# Altium schematic symbol library 零散元件库.SCHLIB: 11 symbols
Pins are listed as number, name and electrical type; pins without a type are passive.

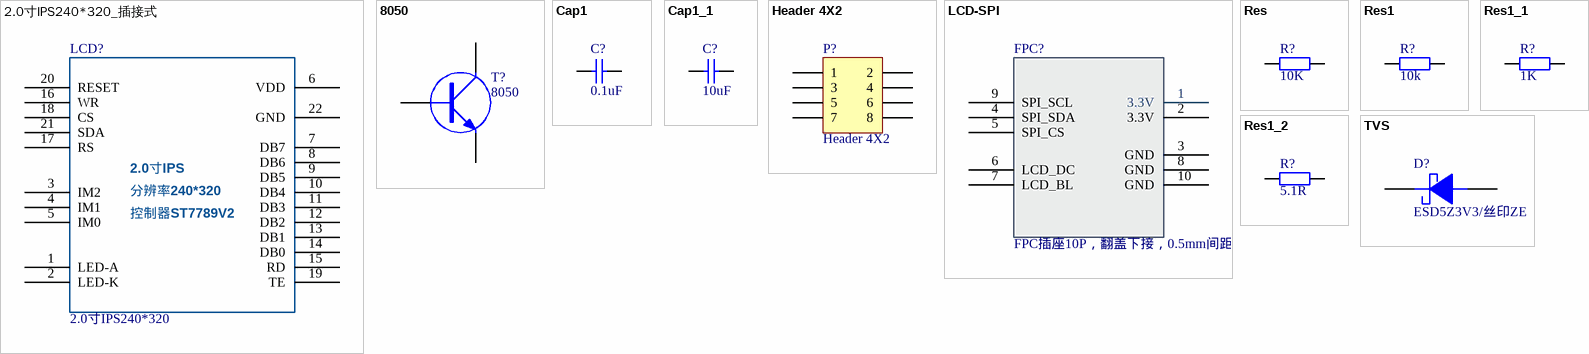
[diagram p0: symbols 2.0寸IPS240*320_插接式 to TVS]

## 2.0寸IPS240*320_插接式
designator LCD?, comment 2.0寸IPS240*320
footprint 2.0寸IPS240*320 - 插接式
pins: 1 LED-A, 2 LED-K, 3 IM2, 4 IM1, 5 IM0, 6 VDD, 7 DB7, 8 DB6, 9 DB5, 10 DB4, 11 DB3, 12 DB2, 13 DB1, 14 DB0, 15 RD, 16 WR, 17 RS, 18 CS, 19 TE, 20 RESET, 21 SDA, 22 GND
text: 2.0寸IPS; 分辨率240*320; 控制器ST7789V2

## 8050
designator T?
footprint TO92B
footprint SO-G3/C2.25 (SOT-23; 3 Leads; Body 3.0 x 2.5 mm, inc. leads (LxW max))
pins: 1 E, 2 B, 3 C

## Cap1
designator C?, comment 0.1uF
value: 0.1uF
footprint RAD0.2
footprint RAD0.3
footprint RAD0.4
footprint RAD0.5
footprint RAD0.6
footprint 0603-cap (Chip Capacitor, 2-Leads, Body 1.60x0.80mm, IPC Medium Density)
footprint 0805-CAP (Chip Capacitor, 2-Leads, Body 2.80x1.40mm, IPC Medium Density)
footprint 0402-CAP (Chip Capacitor, 2-Leads, Body 1.00x0.50mm, IPC Medium Density)
footprint 1206-CAP (Chip Capacitor, 2-Leads, Body 3.20x1.60mm, IPC Medium Density)
footprint 1210-CAP (Chip Capacitor, 2-Leads, Body 3.20x2.50mm, IPC Medium Density)
pins: 1, 2

## Cap1_1
designator C?, comment 10uF
value: 10uF
footprint RAD0.2
footprint RAD0.3
footprint RAD0.4
footprint RAD0.5
footprint RAD0.6
footprint 0603-cap (Chip Capacitor, 2-Leads, Body 1.60x0.80mm, IPC Medium Density)
footprint 0805-CAP (Chip Capacitor, 2-Leads, Body 2.80x1.40mm, IPC Medium Density)
footprint 0402-CAP (Chip Capacitor, 2-Leads, Body 1.00x0.50mm, IPC Medium Density)
footprint 1206-CAP (Chip Capacitor, 2-Leads, Body 3.20x1.60mm, IPC Medium Density)
footprint 1210-CAP (Chip Capacitor, 2-Leads, Body 3.20x2.50mm, IPC Medium Density)
pins: 1, 2

## Header 4X2
designator P?
Header, 4-Pin, Dual row; LatestRevisionDate: 17-Jul-2002; LatestRevisionNote: Re-released for DXP Platform.; Publisher: Altium Limited
footprint HDR2X4 (Connector; Header; 4x2 Position)
signal-integrity model Connector
pins: 1, 2, 3, 4, 5, 6, 7, 8

## LCD-SPI
designator FPC?, comment FPC插座10P，翻盖下接，0.5mm间距
footprint FPC10P-0.5MM
pins: 1 3.3V, 2 3.3V, 3 GND, 4 SPI_SDA, 5 SPI_CS, 6 LCD_DC, 7 LCD_BL, 8 GND, 9 SPI_SCL, 10 GND

## Res
designator R?, comment 10K
value: 10K
footprint AXIAL0.4
footprint AXIAL0.8
footprint 2512
footprint AXIAL0.5
footprint AXIAL0.6
footprint 0603-res
footprint 0805-res (Chip Resistor, 2-Leads, Body 2.20x1.25mm, IPC Medium Density)
footprint 0402-RES (Chip Resistor, 2-Leads, Body 1.00x0.50mm, IPC Medium Density)
pins: 1, 2

## Res1
designator R?, comment 10k
footprint AXIAL0.3
footprint AXIAL0.4
footprint AXIAL0.5
footprint R0805
footprint R0603
footprint AXIAL0.2
footprint 0603-res
footprint 0402-res
pins: 1, 2

## Res1_1
designator R?, comment 1K
footprint AXIAL0.3
footprint AXIAL0.4
footprint AXIAL0.5
footprint R0805
footprint R0603
footprint AXIAL0.2
footprint 0603-res
footprint 0402-res
pins: 1, 2

## Res1_2
designator R?, comment 5.1R
footprint AXIAL0.3
footprint AXIAL0.4
footprint AXIAL0.5
footprint R0805
footprint R0603
footprint AXIAL0.2
footprint 0603-res
footprint 0402-res
pins: 1, 2

## TVS
designator D?, comment ESD5Z3V3/丝印ZE
footprint SOD323 (SODFL, 2-Leads, Body 1.30x2.60mm, IPC Medium Density)
footprint SMA/DO-214AC
footprint SMB/DO-214AA
footprint SOD523
pins: 1 +, 2 -